# Altium schematic symbol library TRANS_NPN_SS8050.Schlib: 1 symbol
Pins are listed as number, name and electrical type; pins without a type are passive.

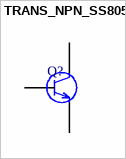
[diagram p0: symbol TRANS_NPN_SS8050]

## TRANS_NPN_SS8050
designator Q?, comment NPN  (value not drawn)
TRANS NPN 1.5A 40V
footprint TO-92-EBC
pins: 1 E, 2 B, 3 C